# Altium schematic symbol library NTC Thermistors.SchLib: 2 symbols
Pins are listed as number, name and electrical type; pins without a type are passive.

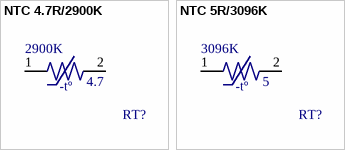
[diagram p0: symbols NTC 4.7R/2900K to NTC 5R/3096K]

## NTC 4.7R/2900K
designator RT?  Temperature: 2900K  Resistence: 4.7  (hidden comment: NTC 4.7R/2900K)
NTC Thermistor 4.7 Ohm/2900K; Manufacturer 1: EPCOS (TDK); Manufacturer 1 PN: B57234S0479M000; ComponentLink1Description: Datasheet; ComponentLink1URL: https://media.digikey.com/pdf/Data%20Sheets/Epcos%20PDFs/B57234S0xxxM000.pdf; Digikey PN: 495-76270-ND
footprint NTC 4.7 Ohm/2900K (NTC Thermistor 4.7 Ohm/2900K)
pins: 1, 2
text: -tº

## NTC 5R/3096K
designator RT?  Temperature: 3096K  Resistence: 5  (hidden comment: NTC 5R/3096K)
THERMISTOR NTC 5 Ohm/3096K DISC; Manufacturer 1: Amphenol Advanced Sensors; Manufacturer 1 PN: RL4504-3.28-59-D1; ComponentLink1Description: Datasheet; ComponentLink1URL: https://media.digikey.com/pdf/Data%20Sheets/Epcos%20PDFs/B57234S0xxxM000.pdf; Digikey PN: KC024N-ND; Mouser PN: 527-RL4504-3.28-59D1
footprint NTC 5 Ohm/3096K (NTC Thermistor 5 Ohm/3096K)
pins: 1, 2
text: -tº